# Altium schematic symbol library отечественные.SchLib: 9 symbols
Pins are listed as number, name and electrical type; pins without a type are passive.

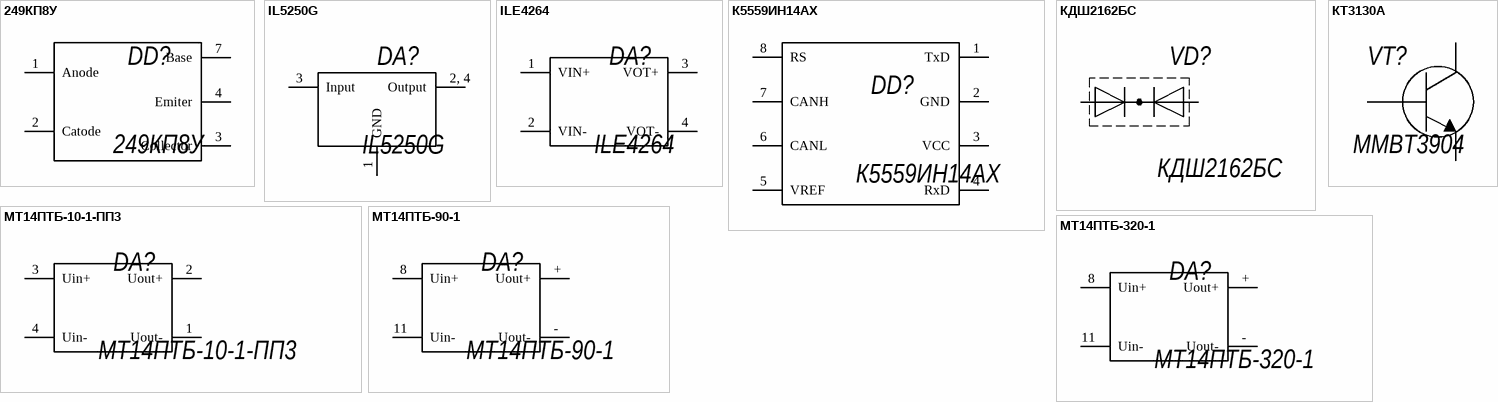
[diagram p0: symbols 249КП8У to МТ14ПТБ-320-1]

## 249КП8У
designator DD?
249КП8У  транзисторная оптопара 60В; LastRevisionDate: 13.04.2015; PackageDescription: QLCC 6/8 -1; Publisher: IMTP FEB RAS; OutComment: 249КП8У; Name: 249КП8У
footprint 249КП8У (QFN, 8-Leads, Body 5,00x5,00mm, Pitch 1,27mm, Thermal Pad 4,00x2,20mm, IPC Medium Density)
pins: 1 Anode, 2 Catode, 3 Collector, 4 Emiter, 7 Base

## IL5250G
designator DA?
5V/100mA Low-Drop Стабилизатор напряжения положительной полярности 5В; LastRevisionDate: 13.04.2015; PackageDescription: P-SOT223-4-1; Publisher: IMTP FEB RAS; OutComment: IL5250G; Name: IL5250G
footprint SOT223 (SOT223, 4-Leads, Body 6,50x7,00mm (avg), Pitch 2,30mm, IPC Medium Density)
pins: 1 GND, 2, 4 Output, 3 Input

## ILE4264
designator DA?
5V/100mA Low-Drop Fixed-Voltage Regulator(analog TLE4264G, Siemens); LastRevisionDate: 13.04.2015; PackageDescription: P-SOT223-4-1; Publisher: IMTP FEB RAS; OutComment: ILE4264; Name: ILE4264
footprint SOT223 (SOT223, 4-Leads, Body 6,50x7,00mm (avg), Pitch 2,30mm, IPC Medium Density)
pins: 1 VIN+, 2 VIN-, 3 VOT+, 4 VOT-

## К5559ИН14АХ
designator DD?
Приемо-передатчик интерфейса CAN; LastRevisionDate: 13.04.2015; PackageDescription: QLCC 6/8 -1; Publisher: IMTP FEB RAS; OutComment: К5559ИН14АХ; Name: К5559ИН14АХ
footprint SOJ-8
pins: 1 TxD, 2 GND, 3 VCC, 4 RxD, 5 VREF, 6 CANL, 7 CANH, 8 RS

## КДШ2162БС
designator VD?
DIODE; LastRevisionDate: 11.06.2010; Name: КДШ2162БС; OutComment: КДШ2162БС; PackageDescription: D2PACK; Publisher: IMTP FEB RAS
footprint КДШ216 (D2-PAK, 4-Leads, Body 9.2x10.2mm, Pitch 2.54mm, Lead Span 15.4mm, IPC High Density)
pins: 1, 2, 3

## КТ3130А
designator VT?, comment MMBT3904
Транзистор; LastRevisionDate: 11.06.2010; PackageDescription: SOT-23; Publisher: IMTP FEB RAS; OutComment: MMBT3904; Name: MMBT3904
footprint SOT-23 (SOT-23; 3 Leads; Body 3.0 x 2.6 mm, inc. leads (LxW max))
pins: 1 IN, 2 S, 3 Vbb

## МТ14ПТБ-10-1-ПП3
designator DA?
Модули коммутации постоянного тока; LastRevisionDate: 13.04.2015; PackageDescription: QLCC 6/8 -1; Publisher: IMTP FEB RAS; OutComment: МТ14ПТБ-10-1-ПП3; Name: МТ14ПТБ-10-1-ПП3
footprint МТ14ПТБ-10-1-ПП3
pins: 1 Uout-, 2 Uout+, 3 Uin+, 4 Uin-

## МТ14ПТБ-90-1
designator DA?
Модули коммутации постоянного тока; LastRevisionDate: 13.04.2015; PackageDescription: QLCC 6/8 -1; Publisher: IMTP FEB RAS; OutComment: МТ14ПТБ-90-1; Name: МТ14ПТБ-90-1
footprint МТ14ПТБ-10-1-ПП3
pins: 8 Uin+, 11 Uin-, + Uout+, - Uout-

## МТ14ПТБ-320-1
designator DA?
Модули коммутации постоянного тока; LastRevisionDate: 13.04.2015; PackageDescription: QLCC 6/8 -1; Publisher: IMTP FEB RAS; OutComment: МТ14ПТБ-320-1; Name: МТ14ПТБ-320-1
footprint МТ14ПТБ-10-1-ПП3
pins: 8 Uin+, 11 Uin-, + Uout+, - Uout-